# EAGLE library part MT8870 (library untitled)
DTMF DECODER based
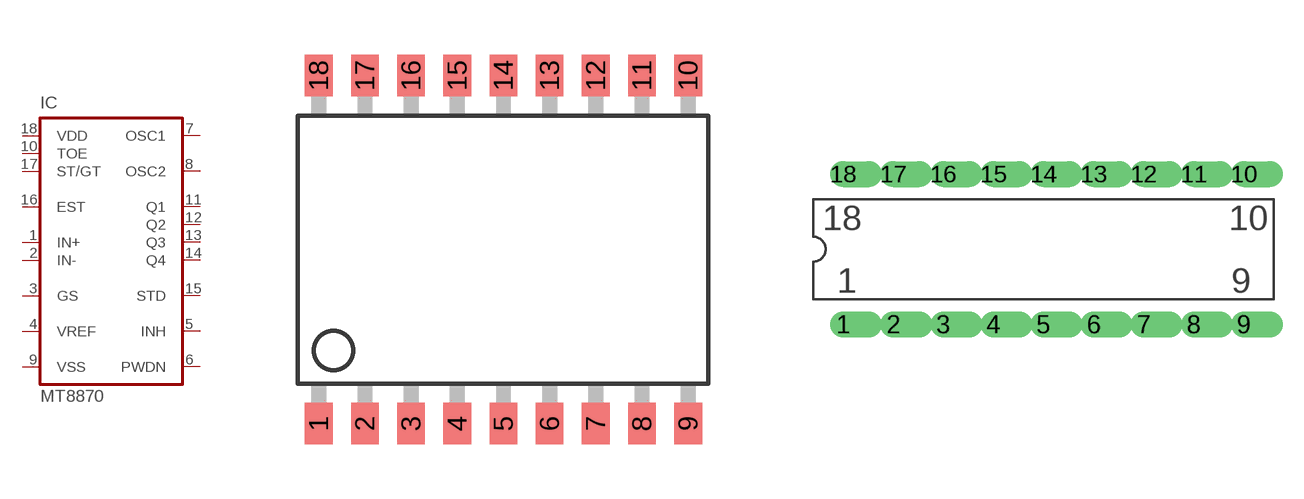
[diagram p0: symbol with the pads of SO-18W; footprints SO-18W, DIL18]

Designator prefix IC

## MT8870SO  [SO-18W]
1  IN+  in
2  IN-  in
3  GS  out
4  VREF  out
5  INH  in
6  PWDN  in
7  OSC1  in
8  OSC2  out
9  VSS  pwr
10  TOE  in
11  Q1  out
12  Q2  out
13  Q3  out
14  Q4  out
15  STD  out
16  EST  out
17  ST/GT
18  VDD  pwr

## MT8870P  [DIL18]
Pads as for SO-18W

## Footprint SO-18W (pad centres in mm)
Small Outline Wide Plastic Gull Wing 300-mil body package type SO
smd 0.762 x 1.143: 1 -5.08,-4.788; 2 -3.81,-4.788; 3 -2.54,-4.788; 4 -1.27,-4.788; 5 0,-4.788; 6 1.27,-4.788; 7 2.54,-4.788; 8 3.81,-4.788; 9 5.08,-4.788; 10 5.08,4.788; 11 3.81,4.788; 12 2.54,4.788; 13 1.27,4.788; 14 0,4.788; 15 -1.27,4.788; 16 -2.54,4.788; 17 -3.81,4.788; 18 -5.08,4.788

## Footprint DIL18 (pad centres in mm)
DIL package type P
drill 0.813 offset: 1 -10.16,-3.81; 2 -7.62,-3.81; 3 -5.08,-3.81; 4 -2.54,-3.81; 5 0,-3.81; 6 2.54,-3.81; 7 5.08,-3.81; 8 7.62,-3.81; 9 10.16,-3.81; 10 10.16,3.81; 11 7.62,3.81; 12 5.08,3.81; 13 2.54,3.81; 14 0,3.81; 15 -2.54,3.81; 16 -5.08,3.81; 17 -7.62,3.81; 18 -10.16,3.81